# Altium schematic symbol library SCH - MCU - STM32 - ST MICROELECTRONICS STM32L4Q5RGTX LQFP64.SchLib: 1 symbol
Pins are listed as number, name and electrical type; pins without a type are passive.

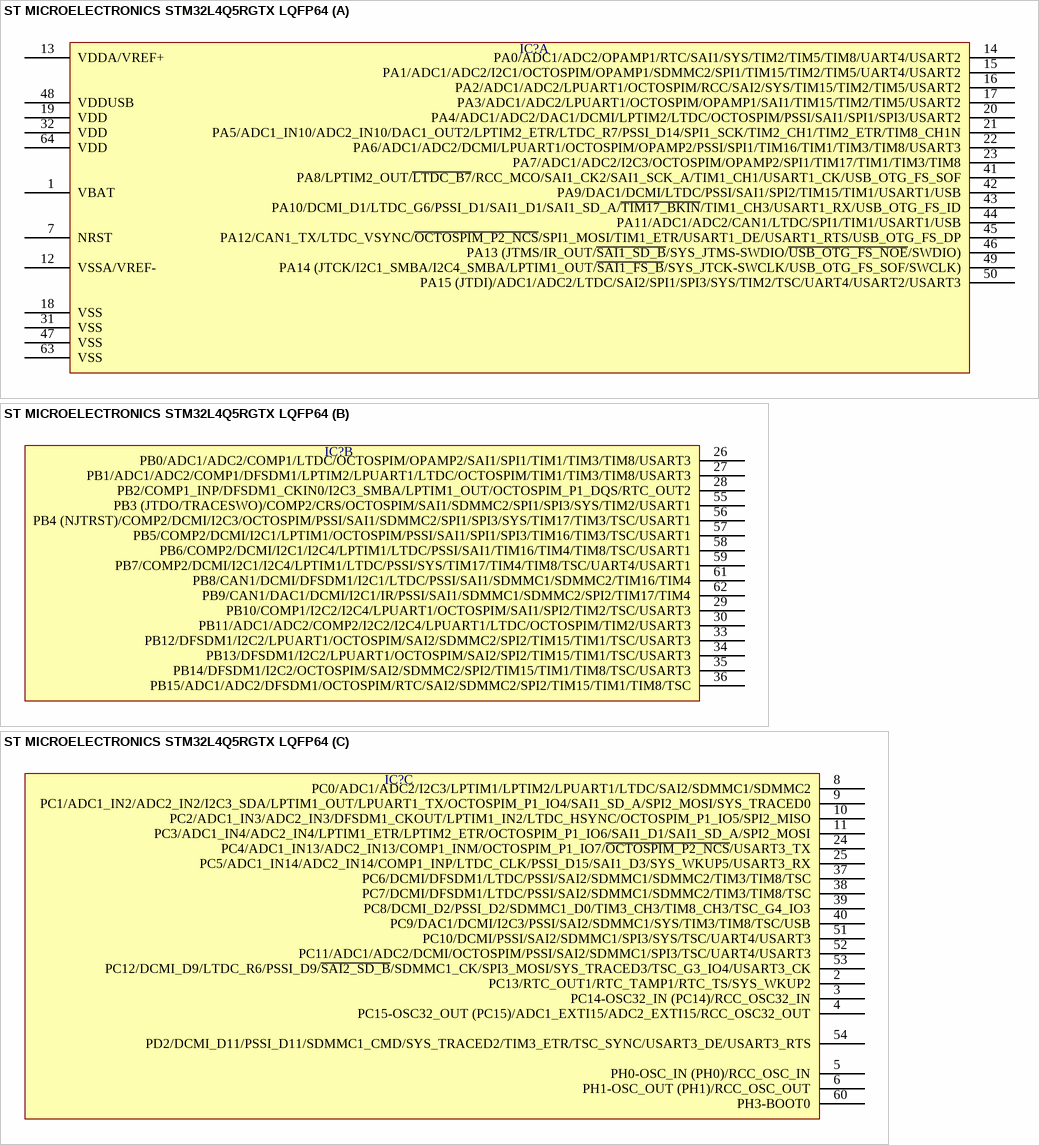
[diagram p0: symbol ST MICROELECTRONICS STM32L4Q5RGTX LQFP64]

## ST MICROELECTRONICS STM32L4Q5RGTX LQFP64
designator IC?  (value not drawn)
part A pins: 1 VBAT, 7 NRST, 12 VSSA/VREF-, 13 VDDA/VREF+, 14 PA0/ADC1/ADC2/OPAMP1/RTC/SAI1/SYS/TIM2/TIM5/TIM8/UART4/USART2, 15 PA1/ADC1/ADC2/I2C1/OCTOSPIM/OPAMP1/SDMMC2/SPI1/TIM15/TIM2/TIM5/UART4/USART2, 16 PA2/ADC1/ADC2/LPUART1/OCTOSPIM/RCC/SAI2/SYS/TIM15/TIM2/TIM5/USART2, 17 PA3/ADC1/ADC2/LPUART1/OCTOSPIM/OPAMP1/SAI1/TIM15/TIM2/TIM5/USART2, 18 VSS, 19 VDD, 20 PA4/ADC1/ADC2/DAC1/DCMI/LPTIM2/LTDC/OCTOSPIM/PSSI/SAI1/SPI1/SPI3/USART2, 21 PA5/ADC1_IN10/ADC2_IN10/DAC1_OUT2/LPTIM2_ETR/LTDC_R7/PSSI_D14/SPI1_SCK/TIM2_CH1/TIM2_ETR/TIM8_CH1N, 22 PA6/ADC1/ADC2/DCMI/LPUART1/OCTOSPIM/OPAMP2/PSSI/SPI1/TIM16/TIM1/TIM3/TIM8/USART3, 23 PA7/ADC1/ADC2/I2C3/OCTOSPIM/OPAMP2/SPI1/TIM17/TIM1/TIM3/TIM8, 31 VSS, 32 VDD, 41 PA8/LPTIM2_OUT/~{LTDC_B7}/RCC_MCO/SAI1_CK2/SAI1_SCK_A/TIM1_CH1/USART1_CK/USB_OTG_FS_SOF, 42 PA9/DAC1/DCMI/LTDC/PSSI/SAI1/SPI2/TIM15/TIM1/USART1/USB, 43 PA10/DCMI_D1/LTDC_G6/PSSI_D1/SAI1_D1/SAI1_SD_A/~{TIM17_BKIN}/TIM1_CH3/USART1_RX/USB_OTG_FS_ID, 44 PA11/ADC1/ADC2/CAN1/LTDC/SPI1/TIM1/USART1/USB, 45 PA12/CAN1_TX/LTDC_VSYNC/~{OCTOSPIM_P2_NCS}/SPI1_MOSI/TIM1_ETR/USART1_DE/USART1_RTS/USB_OTG_FS_DP, 46 PA13 (JTMS/IR_OUT/~{SAI1_SD_B}/SYS_JTMS-SWDIO/~{USB_OTG_FS_NOE}/SWDIO), 47 VSS, 48 VDDUSB, 49 PA14 (JTCK/I2C1_SMBA/I2C4_SMBA/LPTIM1_OUT/~{SAI1_FS_B}/SYS_JTCK-SWCLK/USB_OTG_FS_SOF/SWCLK), 50 PA15 (JTDI)/ADC1/ADC2/LTDC/SAI2/SPI1/SPI3/SYS/TIM2/TSC/UART4/USART2/USART3, 63 VSS, 64 VDD
part B pins: 26 PB0/ADC1/ADC2/COMP1/LTDC/OCTOSPIM/OPAMP2/SAI1/SPI1/TIM1/TIM3/TIM8/USART3, 27 PB1/ADC1/ADC2/COMP1/DFSDM1/LPTIM2/LPUART1/LTDC/OCTOSPIM/TIM1/TIM3/TIM8/USART3, 28 PB2/COMP1_INP/DFSDM1_CKIN0/I2C3_SMBA/LPTIM1_OUT/OCTOSPIM_P1_DQS/RTC_OUT2, 29 PB10/COMP1/I2C2/I2C4/LPUART1/OCTOSPIM/SAI1/SPI2/TIM2/TSC/USART3, 30 PB11/ADC1/ADC2/COMP2/I2C2/I2C4/LPUART1/LTDC/OCTOSPIM/TIM2/USART3, 33 PB12/DFSDM1/I2C2/LPUART1/OCTOSPIM/SAI2/SDMMC2/SPI2/TIM15/TIM1/TSC/USART3, 34 PB13/DFSDM1/I2C2/LPUART1/OCTOSPIM/SAI2/SPI2/TIM15/TIM1/TSC/USART3, 35 PB14/DFSDM1/I2C2/OCTOSPIM/SAI2/SDMMC2/SPI2/TIM15/TIM1/TIM8/TSC/USART3, 36 PB15/ADC1/ADC2/DFSDM1/OCTOSPIM/RTC/SAI2/SDMMC2/SPI2/TIM15/TIM1/TIM8/TSC, 55 PB3 (JTDO/TRACESWO)/COMP2/CRS/OCTOSPIM/SAI1/SDMMC2/SPI1/SPI3/SYS/TIM2/USART1, 56 PB4 (NJTRST)/COMP2/DCMI/I2C3/OCTOSPIM/PSSI/SAI1/SDMMC2/SPI1/SPI3/SYS/TIM17/TIM3/TSC/USART1, 57 PB5/COMP2/DCMI/I2C1/LPTIM1/OCTOSPIM/PSSI/SAI1/SPI1/SPI3/TIM16/TIM3/TSC/USART1, 58 PB6/COMP2/DCMI/I2C1/I2C4/LPTIM1/LTDC/PSSI/SAI1/TIM16/TIM4/TIM8/TSC/USART1, 59 PB7/COMP2/DCMI/I2C1/I2C4/LPTIM1/LTDC/PSSI/SYS/TIM17/TIM4/TIM8/TSC/UART4/USART1, 61 PB8/CAN1/DCMI/DFSDM1/I2C1/LTDC/PSSI/SAI1/SDMMC1/SDMMC2/TIM16/TIM4, 62 PB9/CAN1/DAC1/DCMI/I2C1/IR/PSSI/SAI1/SDMMC1/SDMMC2/SPI2/TIM17/TIM4
part C pins: 2 PC13/RTC_OUT1/RTC_TAMP1/RTC_TS/SYS_WKUP2, 3 PC14-OSC32_IN (PC14)/RCC_OSC32_IN, 4 PC15-OSC32_OUT (PC15)/ADC1_EXTI15/ADC2_EXTI15/RCC_OSC32_OUT, 5 PH0-OSC_IN (PH0)/RCC_OSC_IN, 6 PH1-OSC_OUT (PH1)/RCC_OSC_OUT, 8 PC0/ADC1/ADC2/I2C3/LPTIM1/LPTIM2/LPUART1/LTDC/SAI2/SDMMC1/SDMMC2, 9 PC1/ADC1_IN2/ADC2_IN2/I2C3_SDA/LPTIM1_OUT/LPUART1_TX/OCTOSPIM_P1_IO4/SAI1_SD_A/SPI2_MOSI/SYS_TRACED0, 10 PC2/ADC1_IN3/ADC2_IN3/DFSDM1_CKOUT/LPTIM1_IN2/LTDC_HSYNC/OCTOSPIM_P1_IO5/SPI2_MISO, 11 PC3/ADC1_IN4/ADC2_IN4/LPTIM1_ETR/LPTIM2_ETR/OCTOSPIM_P1_IO6/SAI1_D1/SAI1_SD_A/SPI2_MOSI, 24 PC4/ADC1_IN13/ADC2_IN13/COMP1_INM/OCTOSPIM_P1_IO7/~{OCTOSPIM_P2_NCS}/USART3_TX, 25 PC5/ADC1_IN14/ADC2_IN14/COMP1_INP/LTDC_CLK/PSSI_D15/SAI1_D3/SYS_WKUP5/USART3_RX, 37 PC6/DCMI/DFSDM1/LTDC/PSSI/SAI2/SDMMC1/SDMMC2/TIM3/TIM8/TSC, 38 PC7/DCMI/DFSDM1/LTDC/PSSI/SAI2/SDMMC1/SDMMC2/TIM3/TIM8/TSC, 39 PC8/DCMI_D2/PSSI_D2/SDMMC1_D0/TIM3_CH3/TIM8_CH3/TSC_G4_IO3, 40 PC9/DAC1/DCMI/I2C3/PSSI/SAI2/SDMMC1/SYS/TIM3/TIM8/TSC/USB, 51 PC10/DCMI/PSSI/SAI2/SDMMC1/SPI3/SYS/TSC/UART4/USART3, 52 PC11/ADC1/ADC2/DCMI/OCTOSPIM/PSSI/SAI2/SDMMC1/SPI3/TSC/UART4/USART3, 53 PC12/DCMI_D9/LTDC_R6/PSSI_D9/~{SAI2_SD_B}/SDMMC1_CK/SPI3_MOSI/SYS_TRACED3/TSC_G3_IO4/USART3_CK, 54 PD2/DCMI_D11/PSSI_D11/SDMMC1_CMD/SYS_TRACED2/TIM3_ETR/TSC_SYNC/USART3_DE/USART3_RTS, 60 PH3-BOOT0